# EAGLE library part CPL-PWR-SWI-2CH-MIC2026-1XX (library TinWhiskers)
Pwr Dist. Switch: 2-Channel, 2.7V-5.5V, 500mA/channel; Package: 8-SOIC; Datasheet: http://www.micrel.com/_PDF/mic2026.pdf
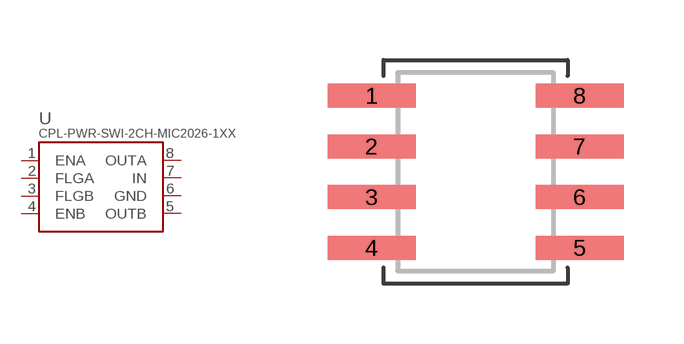
[diagram p32: symbol with the pads of SOIC-8; footprint SOIC-8]

Designator prefix U

## CPL-PWR-SWI-2CH-MIC2026-1XX  [SOIC-8]
1  ENA
2  FLGA
3  FLGB
4  ENB
5  OUTB
6  GND
7  IN
8  OUTA

## Footprint SOIC-8 (pad centres in mm)
SOIC-8
smd 2.2 x 0.6: 1 -2.6,1.905; 2 -2.6,0.635; 3 -2.6,-0.635; 4 -2.6,-1.905; 5 2.6,-1.905; 6 2.6,-0.635; 7 2.6,0.635; 8 2.6,1.905